# EAGLE library part ICL7660 (library stm32f4tuner)
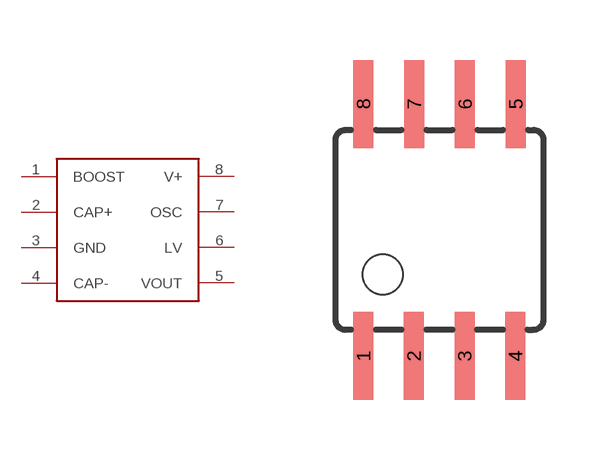
[diagram p3: symbol with the pads of SOIC8; footprint SOIC8]

Designator prefix -

## ICL7660  [SOIC8]
1  BOOST
2  CAP+
3  GND
4  CAP-
5  VOUT
6  LV
7  OSC
8  V+

## Footprint SOIC8 (pad centres in mm)
Wide Plastic Gull Wing Small Outline Package
smd 0.5 x 2.2: 1 -1.905,-3.154; 2 -0.645,-3.154; 3 0.625,-3.154; 4 1.895,-3.154; 5 1.905,3.154; 6 0.635,3.154; 7 -0.635,3.154; 8 -1.905,3.154